# Altium schematic symbol library Invensense.SchLib: 3 symbols
Pins are listed as number, name and electrical type; pins without a type are passive.

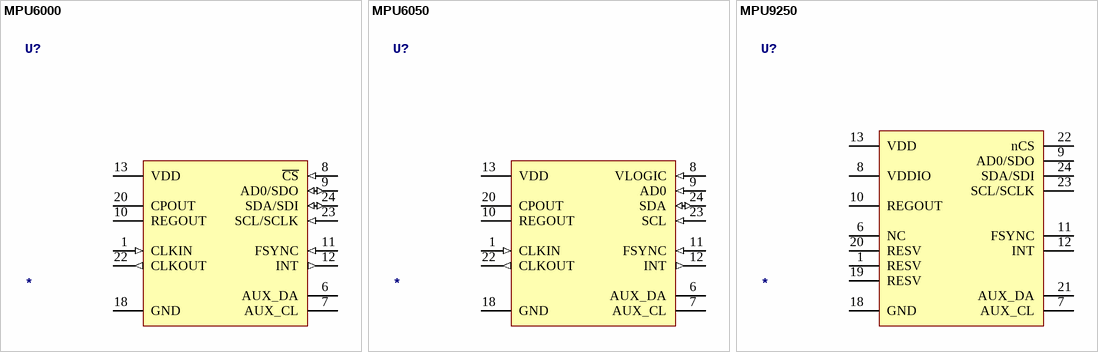
[diagram p0: symbols MPU6000 to MPU9250]

## MPU6000
designator U?
=description
pins: 1 CLKIN (in), 6 AUX_DA, 7 AUX_CL, 8 ~{CS} (in), 9 AD0/SDO (io), 10 REGOUT, 11 FSYNC (in), 12 INT (out), 13 VDD (power), 18 GND (power), 20 CPOUT, 22 CLKOUT (out), 23 SCL/SCLK (in), 24 SDA/SDI (io)

## MPU6050
designator U?
=description
pins: 1 CLKIN (in), 6 AUX_DA, 7 AUX_CL, 8 VLOGIC (in), 9 AD0 (in), 10 REGOUT, 11 FSYNC (in), 12 INT (out), 13 VDD (power), 18 GND (power), 20 CPOUT, 22 CLKOUT (out), 23 SCL (in), 24 SDA (io)

## MPU9250
designator U?
=description
pins: 1 RESV, 6 NC (power), 7 AUX_CL, 8 VDDIO (power), 9 AD0/SDO, 10 REGOUT, 11 FSYNC, 12 INT, 13 VDD (power), 18 GND (power), 19 RESV, 20 RESV (power), 21 AUX_DA, 22 nCS, 23 SCL/SCLK, 24 SDA/SDI